# Altium footprint library Miscellaneous.PcbLib: 2 footprints
Each footprint in its own frame and in the unit in brackets; x right, y up, seen from the top. Pads: shape width x height; smd on the part's side, far side on the other; paste and mask are expansions set on the pad; w line width, h text height; cw(c..) or ccw(c..) is an arc to the next point about the centre after c.
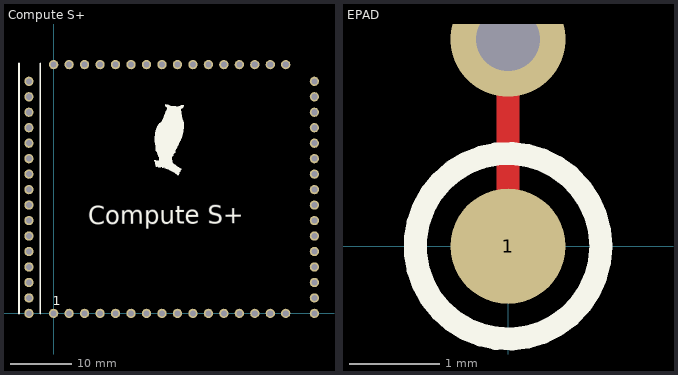
[diagram p0: the footprints below, top view; thin cyan lines are the x and y axes]

## Compute S+ [mil]
pads (64):
  round 60 hole 39.37: CANH(1000,1607.95) CANL(1100,1607.95) GND(-160,900) GND(100,1607.95) GND(600,0) GND(900,1607.95) GND(1685,600) GND(1685,1400) PA00(-160,1500) PA01(-160,1400) PA02(-160,1300) PA03(-160,1200) PA04(-160,300) PA05(-160,200) PA06(-160,100) PA07(-160,0) PA08(0,0) PA09(100,0) PA10(200,0) PA11(300,0) PA12(1200,0) PA13(1300,0) PA14(1400,0) PA15(1500,0) PA16(1685,0) PA17(1685,100) PA18(1685,200) PA19(1685,300) PA20(1685,800) PA21(1685,900) PA22(1685,1000) PA23(1685,1100) PA24(1685,1200) PA25(1685,1300) PA27(1500,1607.95) PA28(1400,1607.95) PA30(1300,1607.95) PA31(1200,1607.95) PB00(500,1607.95) PB01(400,1607.95) PB02(300,1607.95) PB03(200,1607.95) PB04(-160,1100) PB05(-160,1000) PB06(-160,700) PB07(-160,600) PB08(-160,500) PB09(-160,400) PB10(400,0) PB11(500,0) PB12(800,0) PB13(900,0) PB14(1000,0) PB15(1100,0) PB16(1685,400) PB17(1685,500) PB30(700,1607.95) PB31(600,1607.95) VDD(-160,800) VDD(0,1607.95) VDD(700,0) VDD(800,1607.95) VDD(1685,700) VDD(1685,1500)
Top Overlay:
  drawing of 3 lines, arcs and shapes, not listed
  text "1" at -7.09,51.57 h60
  text "Compute S+" at 222.44,538.19 h196.85
3D body "V2_SP.step": height 549.33, standoff 19.68, extent -261.2,-83.86 1773.8,1726.14

## EPAD [mil]
pads (1):
  round 50 smd: 1(0,0)
via 0,90 diameter 50 hole 28
Top Layer:
  lines w10: 0,0 0,90
Top Overlay:
  circle w10: c0,0 r40.31